# EAGLE library part XCR3128XL/100 (library Xilinx)
Xilinx CoolRunner CLPD, XCR3128XL-VQ100
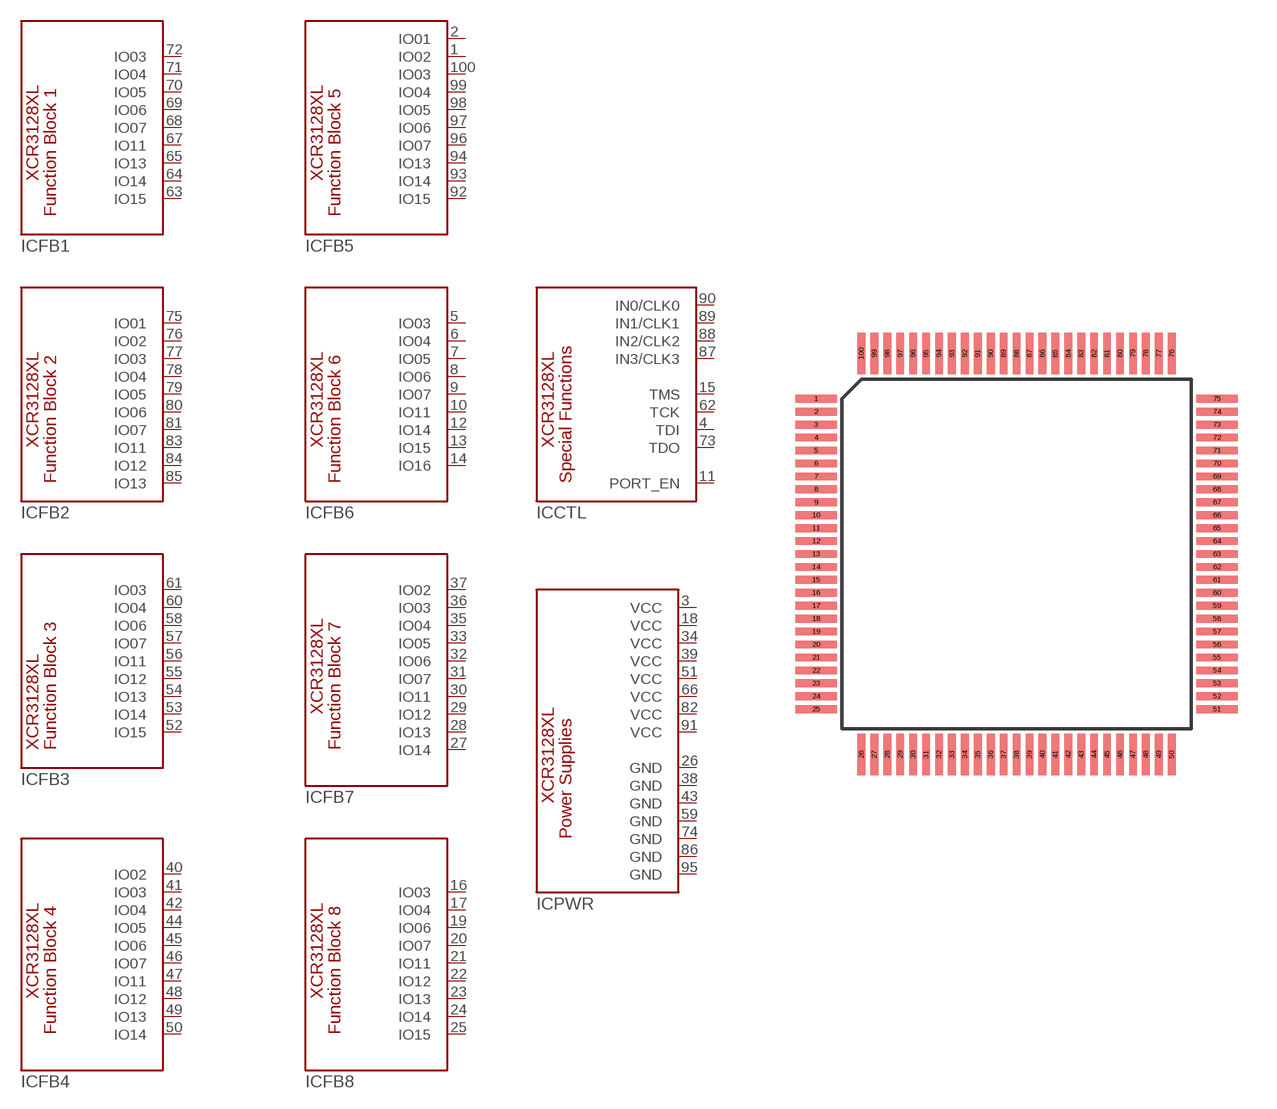
[diagram p24: symbol with the pads of VQ100; footprint VQ100]

Designator prefix IC; gates FB1=XCR3128/VQ100-FB1 FB2=XCR3128/VQ100-FB2 FB3=XCR3128/VQ100-FB3 FB4=XCR3128/VQ100-FB4 FB5=XCR3128/VQ100-FB5 FB6=XCR3128/VQ100-FB6 FB7=XCR3128/VQ100-FB7 CTL=XCR3128/VQ100-CTL PWR=XCR3128/VQ100-PWR FB8=XCR3128/VQ100-FB8

## XCR3128XL/100  [VQ100]
1  FB5:IO02
2  FB5:IO01
3  PWR:VCC  pwr
4  CTL:TDI
5  FB6:IO03
6  FB6:IO04
7  FB6:IO05
8  FB6:IO06
9  FB6:IO07
10  FB6:IO11
11  CTL:PORT_EN
12  FB6:IO14
13  FB6:IO15
14  FB6:IO16
15  CTL:TMS
16  FB8:IO03
17  FB8:IO04
18  PWR:VCC  pwr
19  FB8:IO06
20  FB8:IO07
21  FB8:IO11
22  FB8:IO12
23  FB8:IO13
24  FB8:IO14
25  FB8:IO15
26  PWR:GND  pwr
27  FB7:IO14
28  FB7:IO13
29  FB7:IO12
30  FB7:IO11
31  FB7:IO07
32  FB7:IO06
33  FB7:IO05
34  PWR:VCC  pwr
35  FB7:IO04
36  FB7:IO03
37  FB7:IO02
38  PWR:GND  pwr
39  PWR:VCC  pwr
40  FB4:IO02
41  FB4:IO03
42  FB4:IO04
43  PWR:GND  pwr
44  FB4:IO05
45  FB4:IO06
46  FB4:IO07
47  FB4:IO11
48  FB4:IO12
49  FB4:IO13
50  FB4:IO14
51  PWR:VCC  pwr
52  FB3:IO15
53  FB3:IO14
54  FB3:IO13
55  FB3:IO12
56  FB3:IO11
57  FB3:IO07
58  FB3:IO06
59  PWR:GND  pwr
60  FB3:IO04
61  FB3:IO03
62  CTL:TCK
63  FB1:IO15
64  FB1:IO14
65  FB1:IO13
66  PWR:VCC  pwr
67  FB1:IO11
68  FB1:IO07
69  FB1:IO06
70  FB1:IO05
71  FB1:IO04
72  FB1:IO03
73  CTL:TDO
74  PWR:GND  pwr
75  FB2:IO01
76  FB2:IO02
77  FB2:IO03
78  FB2:IO04
79  FB2:IO05
80  FB2:IO06
81  FB2:IO07
82  PWR:VCC  pwr
83  FB2:IO11
84  FB2:IO12
85  FB2:IO13
86  PWR:GND  pwr
87  CTL:IN3/CLK3
88  CTL:IN2/CLK2
89  CTL:IN1/CLK1
90  CTL:IN0/CLK0
91  PWR:VCC  pwr
92  FB5:IO15
93  FB5:IO14
94  FB5:IO13
95  PWR:GND  pwr
96  FB5:IO07
97  FB5:IO06
98  FB5:IO05
99  FB5:IO04
100  FB5:IO03

## Footprint VQ100 (pad centres in mm)
smd 1.6 x 0.3: 1 -7.75,6; 2 -7.75,5.5; 3 -7.75,5; 4 -7.75,4.5; 5 -7.75,4; 6 -7.75,3.5; 7 -7.75,3; 8 -7.75,2.5; 9 -7.75,2; 10 -7.75,1.5; 11 -7.75,1; 12 -7.75,0.5; 13 -7.75,0; 14 -7.75,-0.5; 15 -7.75,-1; 16 -7.75,-1.5; 17 -7.75,-2; 18 -7.75,-2.5; 19 -7.75,-3; 20 -7.75,-3.5; 21 -7.75,-4; 22 -7.75,-4.5; 23 -7.75,-5; 24 -7.75,-5.5; 25 -7.75,-6; 51 7.75,-6; 52 7.75,-5.5; 53 7.75,-5; 54 7.75,-4.5; 55 7.75,-4; 56 7.75,-3.5; 57 7.75,-3; 58 7.75,-2.5; 59 7.75,-2; 60 7.75,-1.5; 61 7.75,-1; 62 7.75,-0.5; 63 7.75,0; 64 7.75,0.5; 65 7.75,1; 66 7.75,1.5; 67 7.75,2; 68 7.75,2.5; 69 7.75,3; 70 7.75,3.5; 71 7.75,4; 72 7.75,4.5; 73 7.75,5; 74 7.75,5.5; 75 7.75,6
smd 0.3 x 1.6: 26 -6,-7.75; 27 -5.5,-7.75; 28 -5,-7.75; 29 -4.5,-7.75; 30 -4,-7.75; 31 -3.5,-7.75; 32 -3,-7.75; 33 -2.5,-7.75; 34 -2,-7.75; 35 -1.5,-7.75; 36 -1,-7.75; 37 -0.5,-7.75; 38 0,-7.75; 39 0.5,-7.75; 40 1,-7.75; 41 1.5,-7.75; 42 2,-7.75; 43 2.5,-7.75; 44 3,-7.75; 45 3.5,-7.75; 46 4,-7.75; 47 4.5,-7.75; 48 5,-7.75; 49 5.5,-7.75; 50 6,-7.75; 76 6,7.75; 77 5.5,7.75; 78 5,7.75; 79 4.5,7.75; 80 4,7.75; 81 3.5,7.75; 82 3,7.75; 83 2.5,7.75; 84 2,7.75; 85 1.5,7.75; 86 1,7.75; 87 0.5,7.75; 88 0,7.75; 89 -0.5,7.75; 90 -1,7.75; 91 -1.5,7.75; 92 -2,7.75; 93 -2.5,7.75; 94 -3,7.75; 95 -3.5,7.75; 96 -4,7.75; 97 -4.5,7.75; 98 -5,7.75; 99 -5.5,7.75; 100 -6,7.75